# EAGLE library part CY2309SXI-1 (library Cypress_By_element14_Batch_1)
Zero Delay Buffer
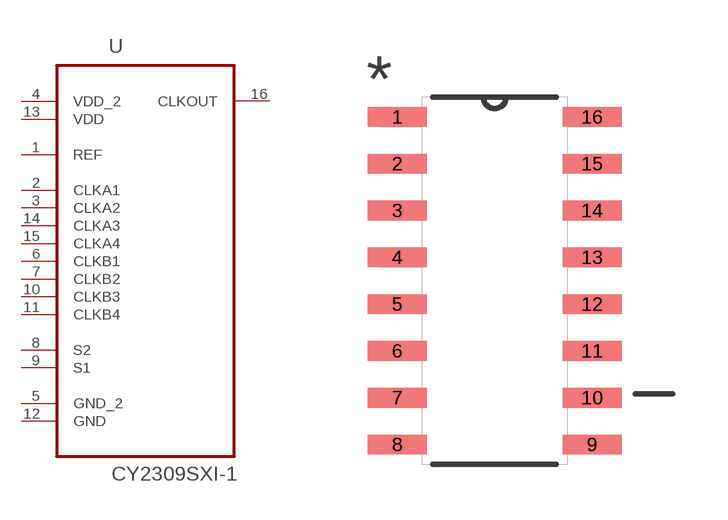
[diagram p7: symbol with the pads of SOIC127P600X172-16N; footprint SOIC127P600X172-16N]

Designator prefix U

## CY2309SXI-1 (DESCRIPTION: Zero Delay Buffer; MPN: CY2309SXI-1; OC_FARNELL: 1876328; OC_NEWARK: 19M2239; PACKAGE: SOIC-16; SUPPLIER: CYPRESS SEMICONDUCTOR)  [SOIC127P600X172-16N]
1  REF  in
2  CLKA1  in
3  CLKA2  in
4  VDD_2  pwr
5  GND_2  pas
6  CLKB1  in
7  CLKB2  in
8  S2  in
9  S1  in
10  CLKB3  in
11  CLKB4  in
12  GND  pas
13  VDD  pwr
14  CLKA3  in
15  CLKA4  in
16  CLKOUT  out

## Footprint SOIC127P600X172-16N (pad centres in mm)
smd 1.6 x 0.533: 1 -2.642,4.445; 2 -2.642,3.175; 3 -2.642,1.905; 4 -2.642,0.635; 5 -2.642,-0.635; 6 -2.642,-1.905; 7 -2.642,-3.175; 8 -2.642,-4.445; 9 2.642,-4.445; 10 2.642,-3.175; 11 2.642,-1.905; 12 2.642,-0.635; 13 2.642,0.635; 14 2.642,1.905; 15 2.642,3.175; 16 2.642,4.445